# EAGLE library part IMU (library custom)
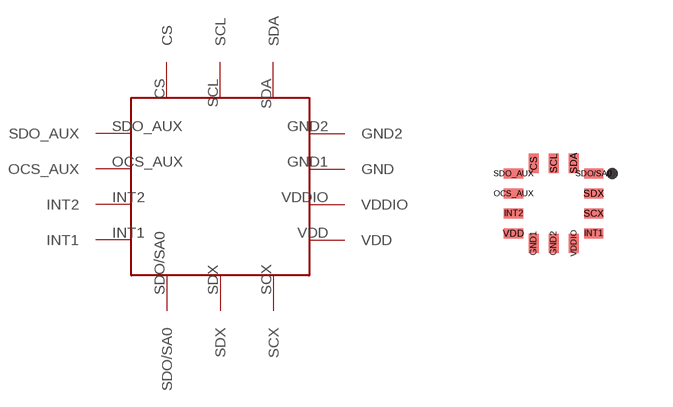
[diagram p0: symbol with the pads of IMU_LSM6DSO; footprint IMU_LSM6DSO]

Designator prefix -

## IMU (CREATOR: AlexanderHaken; DIST: Digikey; DISTPN: LSM6DSO)  [IMU_LSM6DSO]
CS  CS
GND1  GND
GND2  GND2
INT1  INT1
INT2  INT2
OCS_AUX  OCS_AUX
SCL  SCL
SCX  SCX
SDA  SDA
SDO/SA0  SDO/SA0
SDO_AUX  SDO_AUX
SDX  SDX
VDD  VDD
VDDIO  VDDIO

## Footprint IMU_LSM6DSO (pad centres in mm)
smd 0.25 x 0.475: CS -0.5,1.21; GND1 -0.5,-0.79; GND2 0,-0.79; SCL 0,1.21; SDA 0.5,1.21; VDDIO 0.5,-0.79
smd 0.475 x 0.25: INT1 1,-0.54; INT2 -1,-0.04; OCS_AUX -1,0.46; SCX 1,-0.04; SDO/SA0 1,0.96; SDO_AUX -1,0.96; SDX 1,0.46; VDD -1,-0.54